# Altium schematic symbol library HMTSW-102-X-X-S-X.SchLib: 1 symbol
Pins are listed as number, name and electrical type; pins without a type are passive.

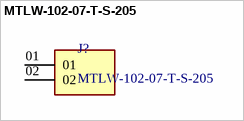
[diagram p0: symbol MTLW-102-07-T-S-205]

## MTLW-102-07-T-S-205
designator J?
2.54 mm 2pos; MF: Samtec; MP: HMTSW-102-21-L-S-1240; SnapEDA_Link: https://www.snapeda.com/parts/HMTSW-102-21-L-S-1240/Samtec/view-part/?ref=snap; Package: None; Value: *; Check_prices: https://www.snapeda.com/parts/HMTSW-102-21-L-S-1240/Samtec/view-part/?ref=eda
footprint SAMTEC_HMTSW-102-X-X-S-X
pins: 01, 02